# EAGLE library part FTDICHIP_FT230X (library GBA_EMU)
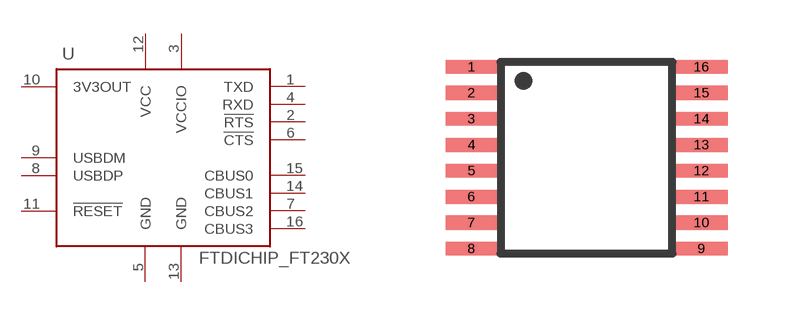
[diagram p3: symbol with the pads of FTDICHIP_SSOP16; footprint FTDICHIP_SSOP16]

Designator prefix U

## FTDICHIP_FT230X  [FTDICHIP_SSOP16]
1  TXD  out
2  !RTS
3  VCCIO  pwr
4  RXD  in
5  GND  pas
6  !CTS
7  CBUS2
8  USBDP
9  USBDM
10  3V3OUT  pwr
11  !RESET
12  VCC  pwr
13  GND  pwr
14  CBUS1
15  CBUS0
16  CBUS3

## Footprint FTDICHIP_SSOP16 (pad centres in mm)
smd 1.3 x 0.35: 1 -2.875,2.275; 2 -2.875,1.625; 3 -2.875,0.975; 4 -2.875,0.325; 5 -2.875,-0.325; 6 -2.875,-0.975; 7 -2.875,-1.625; 8 -2.875,-2.275; 9 2.875,-2.275; 10 2.875,-1.625; 11 2.875,-0.975; 12 2.875,-0.325; 13 2.875,0.325; 14 2.875,0.975; 15 2.875,1.625; 16 2.875,2.275